# Altium footprint library C_size_C-STD.PcbLib: 1 footprints
Each footprint in its own frame and in the unit in brackets; x right, y up, seen from the top. Pads: shape width x height; smd on the part's side, far side on the other; paste and mask are expansions set on the pad; w line width, h text height; cw(c..) or ccw(c..) is an arc to the next point about the centre after c.
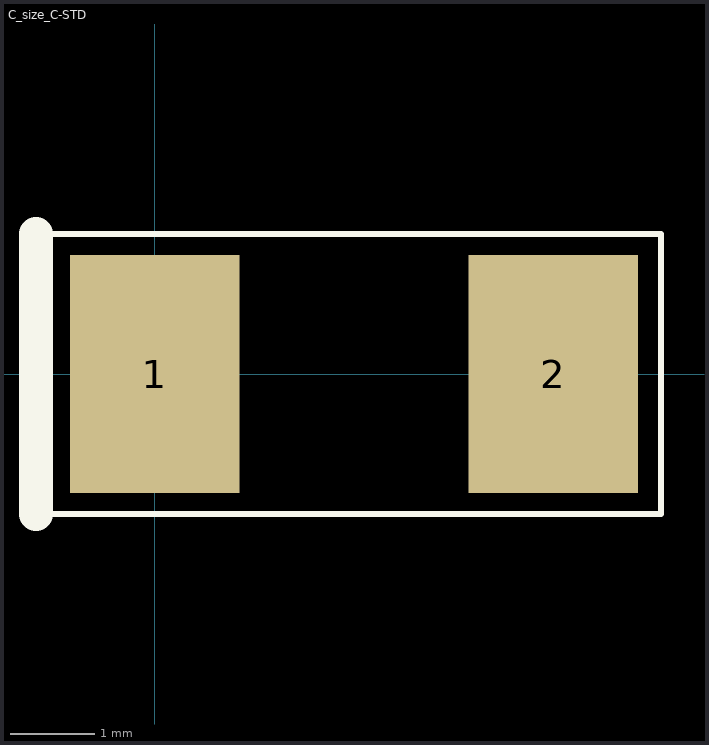
[diagram p0: the footprint, top view; thin cyan lines are the x and y axes]

## C_size_C-STD [mm]
pads (2):
  rect 2x2.8 smd: 1(0,0) 2(4.7,0)
Top Overlay:
  lines w0.07: -1.397,-1.651 5.969,-1.651 5.969,1.651 -1.397,1.651
  lines w0.4: -1.397,-1.651 -1.397,1.651
3D body: height 2.7, standoff 0.01, extent -0.756,-1.605 5.429,1.6